# EAGLE library part 71BDF30 (library noah)
Grayhill 71 series rotary switch, BD style. DK part number GH7107
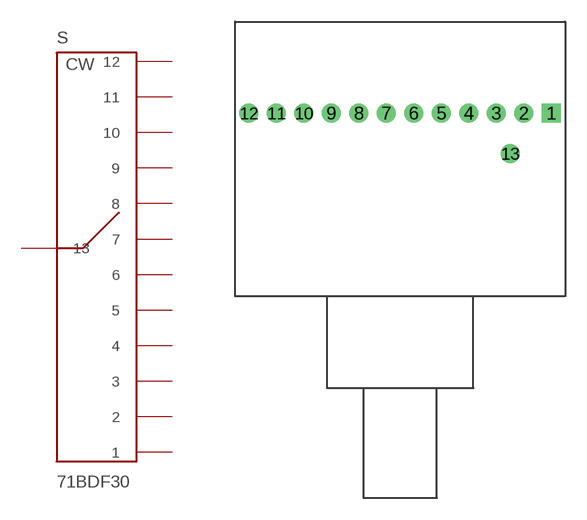
[diagram p24: symbol with the pads of 71BDF; footprint 71BDF]

Designator prefix S

## 71BDF30  [71BDF]
1  1
2  2
3  3
4  4
5  5
6  6
7  7
8  8
9  9
10  10
11  11
12  12
13  13

## Footprint 71BDF (pad centres in mm)
drill 0.8 square: 1 10.477,0
drill 0.8: 2 8.572,0; 3 6.668,0; 4 4.763,0; 5 2.857,0; 6 0.953,0; 7 -0.953,0; 8 -2.857,0; 9 -4.763,0; 10 -6.668,0; 11 -8.572,0; 12 -10.477,0; 13 7.62,-2.794